# Altium integrated library FIT_TCM.IntLib: 99 symbols (part 2 of 3)
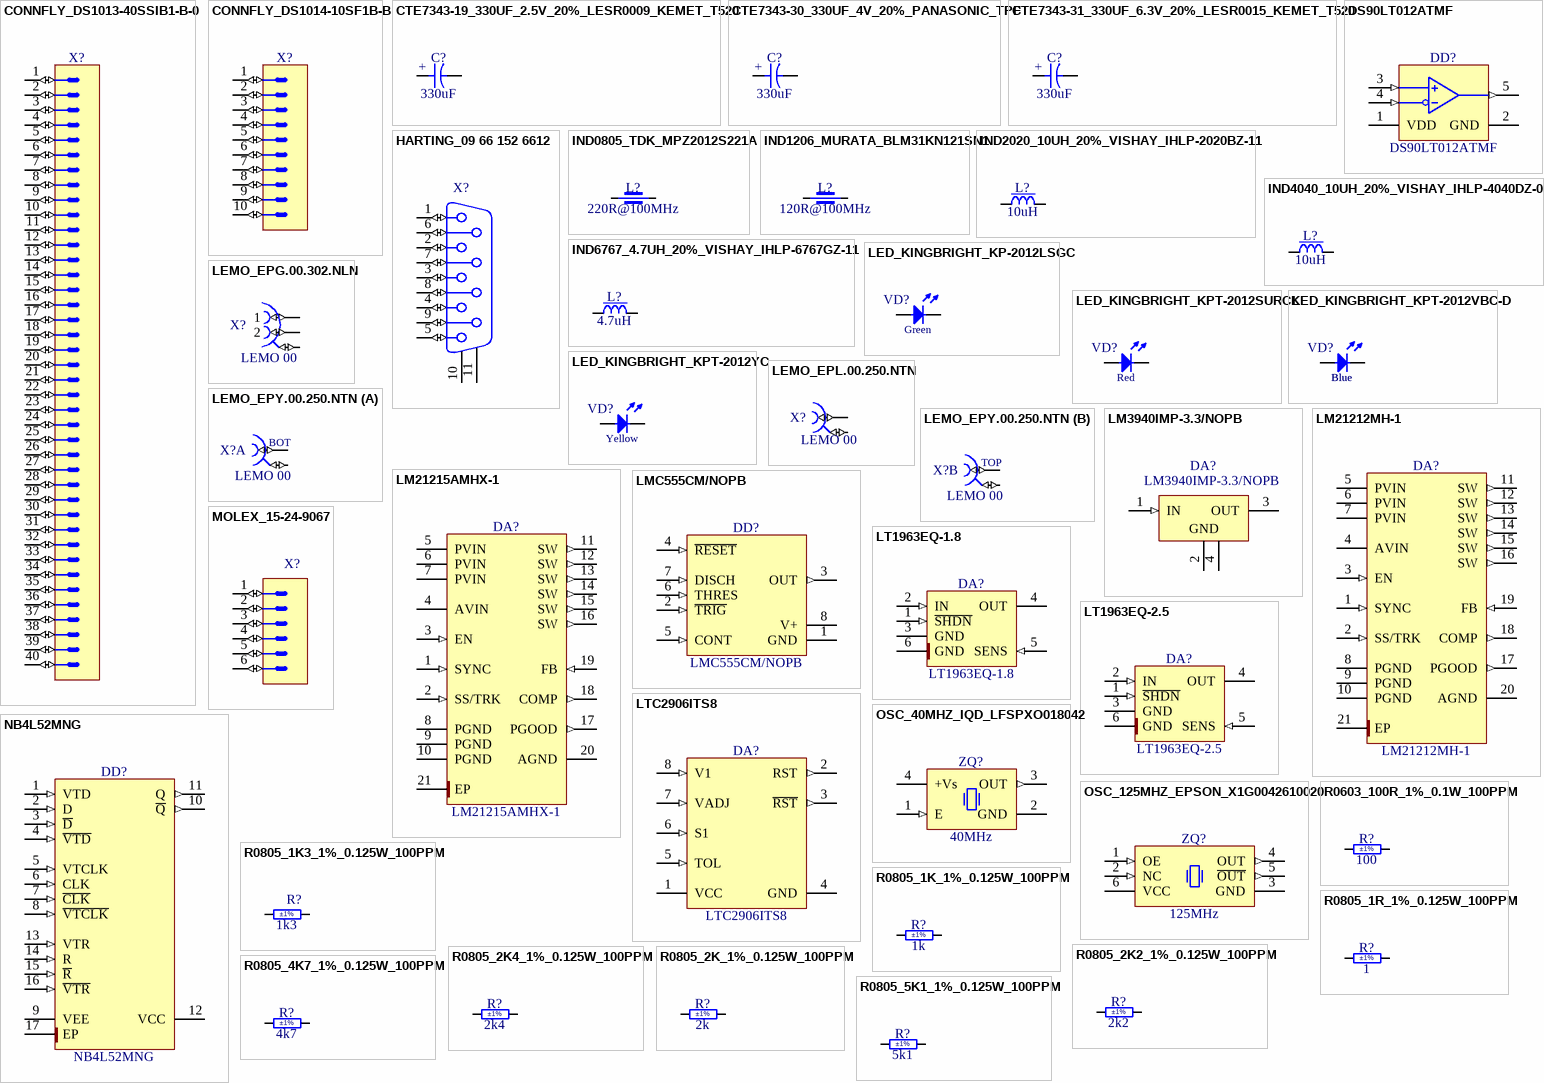
[diagram p6: symbols CONNFLY_DS1013-40SSIB1-B-0 to R0805_5K1_1%_0.125W_100PPM]

## OSC_125MHZ_EPSON_X1G0042610020
designator ZQ?, comment 125MHz
Low-Jitter Saw Oscillator (EG-2102 Serie); Part Number: OSC_125MHZ_EPSON_X1G0042610020; Part Description: 3.3V, ±30ppm, -40°C to +85°C, LVDS XO Oscillator, SG5032VAN Series; Manufacturer: EPSON; Manufacturer Part Number: X1G0042610020; PressFit: No; Bonding: No; Component Kind: Standard; Component Type: Standard; Footprint: OSC_EPSON_SG5032VAN; PackageDescription: SMD Oscillator, Side Concave; 1.27mm Pitch; 6 Pins, 3.2mm L X 5.0mm W X 1.20mm H; Value: 125MHz; Pin Count: 6; Mounted: Yes; Socket: No; SMD: Yes; Sense: No; ComponentHeight: 1.2mm; HelpURL: \\cern.ch\dfs\Applications\Altium\Datasheets\OSC_EPSON_X1G004261.pdf; Author: CERN DEM HF; CreateDate: 11.06.2024; LatestRevisionDate: 11.06.2024
footprint OSC_EPSON_SG5032VAN
pins: 1 OE (in), 2 NC (in), 3 GND (power), 4 OUT (out), 5 ~{OUT} (out), 6 VCC (power)

## R0603_100R_1%_0.1W_100PPM
designator R?, comment 100  Tolerance: ±1%
Resistor - 1%; Part Number: R0603_100R_1%_0.1W_100PPM; Part Description: General Purpose Thick Film Chip Resistor; Manufacturer: GENERIC; Manufacturer1 Part Number: NRC06F4700TRF; Power: 0.1W; TC: ±100ppm/°C; PressFit: No; Component Kind: Standard; Component Type: Standard; Footprint: RESC1608X55N; Pin Count: 2; Value: 100; Status: Preferred; Manufacturer Part Number: R0603_100R_1%_0.1W_100PPM; Case: 0603; Mounted: Yes; Sense: No; Socket: No; SMD: Yes; Manufacturer1 Example: NIC COMPONENT; Manufacturer1 ComponentHeight: 0.55mm; HelpURL: \\cern.ch\dfs\Applications\Altium\Datasheets\R0603_NIC_NRC.pdf; Author: CERN DEM JLC; CreateDate: 03.12.2007; LatestRevisionDate: 13.03.2008
footprint RESC1608X55N
pins: 1, 2

## R0805_1K3_1%_0.125W_100PPM
designator R?, comment 1k3  Tolerance: ±1%
Resistor - 1%; Part Number: R0805_1K3_1%_0.125W_100PPM; Part Description: General Purpose Thick Film Chip Resistor; Manufacturer: GENERIC; Manufacturer1 Part Number: NRC10F1301TRF; Power: 0.125W; TC: ±100ppm/°C; PressFit: No; Component Kind: Standard; Component Type: Standard; Footprint: RESC2012X60N; Pin Count: 2; Value: 1k3; Status: Preferred; Manufacturer Part Number: R0805_1K3_1%_0.125W_100PPM; Case: 0805; Mounted: Yes; Sense: No; Socket: No; SMD: Yes; Manufacturer1 Example: NIC COMPONENT; Manufacturer1 ComponentHeight: 0.6mm; HelpURL: \\cern.ch\dfs\Applications\Altium\Datasheets\R0805_NIC_NRC.pdf; Author: CERN DEM JLC; CreateDate: 03.12.2007; LatestRevisionDate: 13.03.2008
footprint RESC2012X60N
pins: 1, 2

## R0805_1K_1%_0.125W_100PPM
designator R?, comment 1k  Tolerance: ±1%
Resistor - 1%; Part Number: R0805_1K_1%_0.125W_100PPM; Part Description: General Purpose Thick Film Chip Resistor; Manufacturer: GENERIC; Manufacturer1 Part Number: NRC10F1001TRF; Power: 0.125W; TC: ±100ppm/°C; PressFit: No; Component Kind: Standard; Component Type: Standard; Footprint: RESC2012X60N; Pin Count: 2; Value: 1k; Status: Preferred; Manufacturer Part Number: R0805_1K_1%_0.125W_100PPM; Case: 0805; Mounted: Yes; Sense: No; Socket: No; SMD: Yes; Manufacturer1 Example: NIC COMPONENT; Manufacturer1 ComponentHeight: 0.6mm; HelpURL: \\cern.ch\dfs\Applications\Altium\Datasheets\R0805_NIC_NRC.pdf; Author: CERN DEM JLC; CreateDate: 03.12.2007; LatestRevisionDate: 13.03.2008
footprint RESC2012X60N
pins: 1, 2

## R0805_1R_1%_0.125W_100PPM
designator R?, comment 1  Tolerance: ±1%
Resistor - 1%; Part Number: R0805_1R_1%_0.125W_100PPM; Part Description: Thick Film Chip Resistor; Manufacturer: GENERIC; Manufacturer1 Part Number: CRCW08051R00FKEA; Power: 0.125W; TC: ±100ppm/°C; PressFit: No; Component Kind: Standard; Component Type: Standard; Footprint: RESC2012X60N; Pin Count: 2; Value: 1; Status: None; Manufacturer Part Number: R0805_1R_1%_0.125W_100PPM; Case: 0805; Mounted: Yes; Sense: No; Socket: No; SMD: Yes; Manufacturer1 Example: VISHAY; Manufacturer1 ComponentHeight: 0.6mm; HelpURL: \\cern.ch\dfs\Applications\Altium\Datasheets\R0805_VISHAY_CRCW e3.pdf; Author: CERN DEM HF; CreateDate: 07.06.2024; LatestRevisionDate: 07.06.2024
footprint RESC2012X60N
pins: 1, 2

## R0805_2K2_1%_0.125W_100PPM
designator R?, comment 2k2  Tolerance: ±1%
Resistor - 1%; Part Number: R0805_2K2_1%_0.125W_100PPM; Part Description: General Purpose Thick Film Chip Resistor; Manufacturer: GENERIC; Manufacturer1 Part Number: NRC10F2201TRF; Power: 0.125W; TC: ±100ppm/°C; PressFit: No; Component Kind: Standard; Component Type: Standard; Footprint: RESC2012X60N; Pin Count: 2; Value: 2k2; Status: Preferred; Manufacturer Part Number: R0805_2K2_1%_0.125W_100PPM; Case: 0805; Mounted: Yes; Sense: No; Socket: No; SMD: Yes; Manufacturer1 Example: NIC COMPONENT; Manufacturer1 ComponentHeight: 0.6mm; HelpURL: \\cern.ch\dfs\Applications\Altium\Datasheets\R0805_NIC_NRC.pdf; Author: CERN DEM JLC; CreateDate: 03.12.2007; LatestRevisionDate: 13.03.2008
footprint RESC2012X60N
pins: 1, 2

## R0805_2K4_1%_0.125W_100PPM
designator R?, comment 2k4  Tolerance: ±1%
Resistor - 1%; Part Number: R0805_2K4_1%_0.125W_100PPM; Part Description: General Purpose Thick Film Chip Resistor; Manufacturer: GENERIC; Manufacturer1 Part Number: NRC10F2401TRF; Power: 0.125W; TC: ±100ppm/°C; PressFit: No; Component Kind: Standard; Component Type: Standard; Footprint: RESC2012X60N; Pin Count: 2; Value: 2k4; Status: Preferred; Manufacturer Part Number: R0805_2K4_1%_0.125W_100PPM; Case: 0805; Mounted: Yes; Sense: No; Socket: No; SMD: Yes; Manufacturer1 Example: NIC COMPONENT; Manufacturer1 ComponentHeight: 0.6mm; HelpURL: \\cern.ch\dfs\Applications\Altium\Datasheets\R0805_NIC_NRC.pdf; Author: CERN DEM JLC; CreateDate: 03.12.2007; LatestRevisionDate: 13.03.2008
footprint RESC2012X60N
pins: 1, 2

## R0805_2K_1%_0.125W_100PPM
designator R?, comment 2k  Tolerance: ±1%
Resistor - 1%; Part Number: R0805_2K_1%_0.125W_100PPM; Part Description: General Purpose Thick Film Chip Resistor; Manufacturer: GENERIC; Manufacturer1 Part Number: NRC10F2001TRF; Power: 0.125W; TC: ±100ppm/°C; PressFit: No; Component Kind: Standard; Component Type: Standard; Footprint: RESC2012X60N; Pin Count: 2; Value: 2k; Status: Preferred; Manufacturer Part Number: R0805_2K_1%_0.125W_100PPM; Case: 0805; Mounted: Yes; Sense: No; Socket: No; SMD: Yes; Manufacturer1 Example: NIC COMPONENT; Manufacturer1 ComponentHeight: 0.6mm; HelpURL: \\cern.ch\dfs\Applications\Altium\Datasheets\R0805_NIC_NRC.pdf; Author: CERN DEM JLC; CreateDate: 03.12.2007; LatestRevisionDate: 13.03.2008
footprint RESC2012X60N
pins: 1, 2

## R0805_4K7_1%_0.125W_100PPM
designator R?, comment 4k7  Tolerance: ±1%
Resistor - 1%; Part Number: R0805_4K7_1%_0.125W_100PPM; Part Description: General Purpose Thick Film Chip Resistor; Manufacturer: GENERIC; Manufacturer1 Part Number: NRC10F4701TRF; Power: 0.125W; TC: ±100ppm/°C; PressFit: No; Component Kind: Standard; Component Type: Standard; Footprint: RESC2012X60N; Pin Count: 2; Value: 4k7; Status: Preferred; Manufacturer Part Number: R0805_4K7_1%_0.125W_100PPM; Case: 0805; Mounted: Yes; Sense: No; Socket: No; SMD: Yes; Manufacturer1 Example: NIC COMPONENT; Manufacturer1 ComponentHeight: 0.6mm; HelpURL: \\cern.ch\dfs\Applications\Altium\Datasheets\R0805_NIC_NRC.pdf; Author: CERN DEM JLC; CreateDate: 03.12.2007; LatestRevisionDate: 13.03.2008
footprint RESC2012X60N
pins: 1, 2

## R0805_5K1_1%_0.125W_100PPM
designator R?, comment 5k1  Tolerance: ±1%
Resistor - 1%; Part Number: R0805_5K1_1%_0.125W_100PPM; Part Description: General Purpose Thick Film Chip Resistor; Manufacturer: GENERIC; Manufacturer1 Part Number: NRC10F5101TRF; Power: 0.125W; TC: ±100ppm/°C; PressFit: No; Component Kind: Standard; Component Type: Standard; Footprint: RESC2012X60N; Pin Count: 2; Value: 5k1; Status: Preferred; Manufacturer Part Number: R0805_5K1_1%_0.125W_100PPM; Case: 0805; Mounted: Yes; Sense: No; Socket: No; SMD: Yes; Manufacturer1 Example: NIC COMPONENT; Manufacturer1 ComponentHeight: 0.6mm; HelpURL: \\cern.ch\dfs\Applications\Altium\Datasheets\R0805_NIC_NRC.pdf; Author: CERN DEM JLC; CreateDate: 03.12.2007; LatestRevisionDate: 13.03.2008
footprint RESC2012X60N
pins: 1, 2

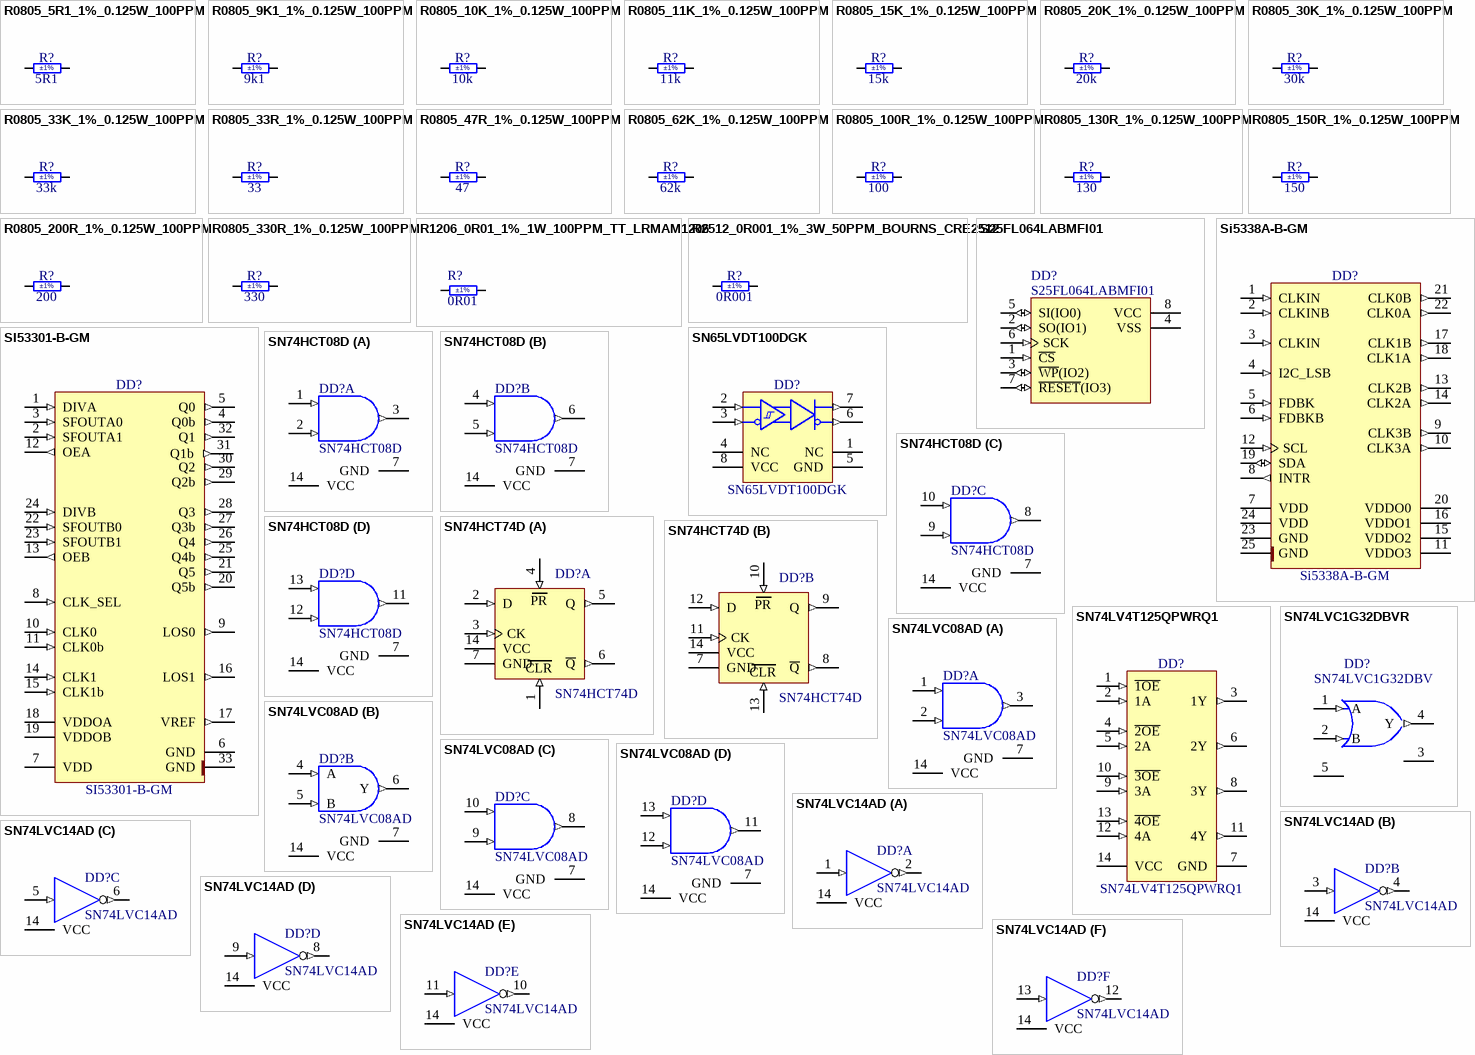
[diagram p2: symbols R0805_5R1_1%_0.125W_100PPM to SN74LVC14AD]

## R0805_5R1_1%_0.125W_100PPM
designator R?, comment 5R1  Tolerance: ±1%
Resistor - 1%; Part Number: R0805_5R1_1%_0.125W_100PPM; Part Description: Thick Film Chip Resistor; Manufacturer: GENERIC; Manufacturer1 Part Number: CRCW08055R10FKEAHP; Power: 0.125W; TC: ±100ppm/°C; PressFit: No; Component Kind: Standard; Component Type: Standard; Footprint: RESC2012X60N; Pin Count: 2; Value: 5R1; Status: None; Manufacturer Part Number: R0805_5R1_1%_0.125W_100PPM; Case: 0805; Mounted: Yes; Sense: No; Socket: No; SMD: Yes; Manufacturer1 Example: VISHAY; Manufacturer1 ComponentHeight: 0.6mm; HelpURL: \\cern.ch\dfs\Applications\Altium\Datasheets\R0805_VISHAY_CRCW-HP e3.pdf; Author: CERN DEM HF; CreateDate: 07.06.2024; LatestRevisionDate: 07.06.2024
footprint RESC2012X60N
pins: 1, 2

## R0805_9K1_1%_0.125W_100PPM
designator R?, comment 9k1  Tolerance: ±1%
Resistor - 1%; Part Number: R0805_9K1_1%_0.125W_100PPM; Part Description: General Purpose Thick Film Chip Resistor; Manufacturer: GENERIC; Manufacturer1 Part Number: NRC10F9101TRF; Power: 0.125W; TC: ±100ppm/°C; PressFit: No; Component Kind: Standard; Component Type: Standard; Footprint: RESC2012X60N; Pin Count: 2; Value: 9k1; Status: Preferred; Manufacturer Part Number: R0805_9K1_1%_0.125W_100PPM; Case: 0805; Mounted: Yes; Sense: No; Socket: No; SMD: Yes; Manufacturer1 Example: NIC COMPONENT; Manufacturer1 ComponentHeight: 0.6mm; HelpURL: \\cern.ch\dfs\Applications\Altium\Datasheets\R0805_NIC_NRC.pdf; Author: CERN DEM JLC; CreateDate: 03.12.2007; LatestRevisionDate: 13.03.2008
footprint RESC2012X60N
pins: 1, 2

## R0805_10K_1%_0.125W_100PPM
designator R?, comment 10k  Tolerance: ±1%
Resistor - 1%; Part Number: R0805_10K_1%_0.125W_100PPM; Part Description: General Purpose Thick Film Chip Resistor; Manufacturer: GENERIC; Manufacturer1 Part Number: NRC10F1002TRF; Power: 0.125W; TC: ±100ppm/°C; PressFit: No; Component Kind: Standard; Component Type: Standard; Footprint: RESC2012X60N; Pin Count: 2; Value: 10k; Status: Preferred; Manufacturer Part Number: R0805_10K_1%_0.125W_100PPM; Case: 0805; Mounted: Yes; Sense: No; Socket: No; SMD: Yes; Manufacturer1 Example: NIC COMPONENT; Manufacturer1 ComponentHeight: 0.6mm; HelpURL: \\cern.ch\dfs\Applications\Altium\Datasheets\R0805_NIC_NRC.pdf; Author: CERN DEM JLC; CreateDate: 03.12.2007; LatestRevisionDate: 13.03.2008
footprint RESC2012X60N
pins: 1, 2

## R0805_11K_1%_0.125W_100PPM
designator R?, comment 11k  Tolerance: ±1%
Resistor - 1%; Part Number: R0805_11K_1%_0.125W_100PPM; Part Description: General Purpose Thick Film Chip Resistor; Manufacturer: GENERIC; Manufacturer1 Part Number: NRC10F1102TRF; Power: 0.125W; TC: ±100ppm/°C; PressFit: No; Component Kind: Standard; Component Type: Standard; Footprint: RESC2012X60N; Pin Count: 2; Value: 11k; Status: Preferred; Manufacturer Part Number: R0805_11K_1%_0.125W_100PPM; Case: 0805; Mounted: Yes; Sense: No; Socket: No; SMD: Yes; Manufacturer1 Example: NIC COMPONENT; Manufacturer1 ComponentHeight: 0.6mm; HelpURL: \\cern.ch\dfs\Applications\Altium\Datasheets\R0805_NIC_NRC.pdf; Author: CERN DEM JLC; CreateDate: 03.12.2007; LatestRevisionDate: 13.03.2008
footprint RESC2012X60N
pins: 1, 2

## R0805_15K_1%_0.125W_100PPM
designator R?, comment 15k  Tolerance: ±1%
Resistor - 1%; Part Number: R0805_15K_1%_0.125W_100PPM; Part Description: General Purpose Thick Film Chip Resistor; Manufacturer: GENERIC; Manufacturer1 Part Number: NRC10F1502TRF; Power: 0.125W; TC: ±100ppm/°C; PressFit: No; Component Kind: Standard; Component Type: Standard; Footprint: RESC2012X60N; Pin Count: 2; Value: 15k; Status: Preferred; Manufacturer Part Number: R0805_15K_1%_0.125W_100PPM; Case: 0805; Mounted: Yes; Sense: No; Socket: No; SMD: Yes; Manufacturer1 Example: NIC COMPONENT; Manufacturer1 ComponentHeight: 0.6mm; HelpURL: \\cern.ch\dfs\Applications\Altium\Datasheets\R0805_NIC_NRC.pdf; Author: CERN DEM JLC; CreateDate: 13.05.2013; LatestRevisionDate: 13.05.2013
footprint RESC2012X60N
pins: 1, 2

## R0805_20K_1%_0.125W_100PPM
designator R?, comment 20k  Tolerance: ±1%
Resistor - 1%; Part Number: R0805_20K_1%_0.125W_100PPM; Part Description: General Purpose Thick Film Chip Resistor; Manufacturer: GENERIC; Manufacturer1 Part Number: NRC10F2002TRF; Power: 0.125W; TC: ±100ppm/°C; PressFit: No; Component Kind: Standard; Component Type: Standard; Footprint: RESC2012X60N; Pin Count: 2; Value: 20k; Status: Preferred; Manufacturer Part Number: R0805_20K_1%_0.125W_100PPM; Case: 0805; Mounted: Yes; Sense: No; Socket: No; SMD: Yes; Manufacturer1 Example: NIC COMPONENT; Manufacturer1 ComponentHeight: 0.6mm; HelpURL: \\cern.ch\dfs\Applications\Altium\Datasheets\R0805_NIC_NRC.pdf; Author: CERN DEM JLC; CreateDate: 03.12.2007; LatestRevisionDate: 13.03.2008
footprint RESC2012X60N
pins: 1, 2

## R0805_30K_1%_0.125W_100PPM
designator R?, comment 30k  Tolerance: ±1%
Resistor - 1%; Part Number: R0805_30K_1%_0.125W_100PPM; Part Description: General Purpose Thick Film Chip Resistor; Manufacturer: GENERIC; Manufacturer1 Part Number: NRC10F3002TRF; Power: 0.125W; TC: ±100ppm/°C; PressFit: No; Component Kind: Standard; Component Type: Standard; Footprint: RESC2012X60N; Pin Count: 2; Value: 30k; Status: Preferred; Manufacturer Part Number: R0805_30K_1%_0.125W_100PPM; Case: 0805; Mounted: Yes; Sense: No; Socket: No; SMD: Yes; Manufacturer1 Example: NIC COMPONENT; Manufacturer1 ComponentHeight: 0.6mm; HelpURL: \\cern.ch\dfs\Applications\Altium\Datasheets\R0805_NIC_NRC.pdf; Author: CERN DEM JLC; CreateDate: 03.12.2007; LatestRevisionDate: 13.03.2008
footprint RESC2012X60N
pins: 1, 2

## R0805_33K_1%_0.125W_100PPM
designator R?, comment 33k  Tolerance: ±1%
Resistor - 1%; Part Number: R0805_33K_1%_0.125W_100PPM; Part Description: General Purpose Thick Film Chip Resistor; Manufacturer: GENERIC; Manufacturer1 Part Number: NRC10F3302TRF; Power: 0.125W; TC: ±100ppm/°C; PressFit: No; Component Kind: Standard; Component Type: Standard; Footprint: RESC2012X60N; Pin Count: 2; Value: 33k; Status: Preferred; Manufacturer Part Number: R0805_33K_1%_0.125W_100PPM; Case: 0805; Mounted: Yes; Sense: No; Socket: No; SMD: Yes; Manufacturer1 Example: NIC COMPONENT; Manufacturer1 ComponentHeight: 0.6mm; HelpURL: \\cern.ch\dfs\Applications\Altium\Datasheets\R0805_NIC_NRC.pdf; Author: CERN DEM JLC; CreateDate: 03.12.2007; LatestRevisionDate: 13.03.2008
footprint RESC2012X60N
pins: 1, 2

## R0805_33R_1%_0.125W_100PPM
designator R?, comment 33  Tolerance: ±1%
Resistor - 1%; Part Number: R0805_33R_1%_0.125W_100PPM; Part Description: General Purpose Thick Film Chip Resistor; Manufacturer: GENERIC; Manufacturer1 Part Number: NRC10F33R0TRF; Power: 0.125W; TC: ±100ppm/°C; PressFit: No; Component Kind: Standard; Component Type: Standard; Footprint: RESC2012X60N; Pin Count: 2; Value: 33; Status: Preferred; Manufacturer Part Number: R0805_33R_1%_0.125W_100PPM; Case: 0805; Mounted: Yes; Sense: No; Socket: No; SMD: Yes; Manufacturer1 Example: NIC COMPONENT; Manufacturer1 ComponentHeight: 0.6mm; HelpURL: \\cern.ch\dfs\Applications\Altium\Datasheets\R0805_NIC_NRC.pdf; Author: CERN DEM JLC; CreateDate: 03.12.2007; LatestRevisionDate: 13.03.2008
footprint RESC2012X60N
pins: 1, 2

## R0805_47R_1%_0.125W_100PPM
designator R?, comment 47  Tolerance: ±1%
Resistor - 1%; Part Number: R0805_47R_1%_0.125W_100PPM; Part Description: General Purpose Thick Film Chip Resistor; Manufacturer: GENERIC; Manufacturer1 Part Number: NRC10F47R0TRF; Power: 0.125W; TC: ±100ppm/°C; PressFit: No; Component Kind: Standard; Component Type: Standard; Footprint: RESC2012X60N; Pin Count: 2; Value: 47; Status: Preferred; Manufacturer Part Number: R0805_47R_1%_0.125W_100PPM; Case: 0805; Mounted: Yes; Sense: No; Socket: No; SMD: Yes; Manufacturer1 Example: NIC COMPONENT; Manufacturer1 ComponentHeight: 0.6mm; HelpURL: \\cern.ch\dfs\Applications\Altium\Datasheets\R0805_NIC_NRC.pdf; Author: CERN DEM JLC; CreateDate: 03.12.2007; LatestRevisionDate: 13.03.2008
footprint RESC2012X60N
pins: 1, 2

## R0805_62K_1%_0.125W_100PPM
designator R?, comment 62k  Tolerance: ±1%
Resistor - 1%; Part Number: R0805_62K_1%_0.125W_100PPM; Part Description: General Purpose Thick Film Chip Resistor; Manufacturer: GENERIC; Manufacturer1 Part Number: NRC10F6202TRF; Power: 0.125W; TC: ±100ppm/°C; PressFit: No; Component Kind: Standard; Component Type: Standard; Footprint: RESC2012X60N; Pin Count: 2; Value: 62k; Status: Preferred; Manufacturer Part Number: R0805_62K_1%_0.125W_100PPM; Case: 0805; Mounted: Yes; Sense: No; Socket: No; SMD: Yes; Manufacturer1 Example: NIC COMPONENT; Manufacturer1 ComponentHeight: 0.6mm; HelpURL: \\cern.ch\dfs\Applications\Altium\Datasheets\R0805_NIC_NRC.pdf; Author: CERN DEM JLC; CreateDate: 03.12.2007; LatestRevisionDate: 13.03.2008
footprint RESC2012X60N
pins: 1, 2

## R0805_100R_1%_0.125W_100PPM
designator R?, comment 100  Tolerance: ±1%
Resistor - 1%; Part Number: R0805_100R_1%_0.125W_100PPM; Part Description: General Purpose Thick Film Chip Resistor; Manufacturer: GENERIC; Manufacturer1 Part Number: NRC10F4700TRF; Power: 0.125W; TC: ±100ppm/°C; PressFit: No; Component Kind: Standard; Component Type: Standard; Footprint: RESC2012X60N; Pin Count: 2; Value: 100; Status: Preferred; Manufacturer Part Number: R0805_100R_1%_0.125W_100PPM; Case: 0805; Mounted: Yes; Sense: No; Socket: No; SMD: Yes; Manufacturer1 Example: NIC COMPONENT; Manufacturer1 ComponentHeight: 0.6mm; HelpURL: \\cern.ch\dfs\Applications\Altium\Datasheets\R0805_NIC_NRC.pdf; Author: CERN DEM JLC; CreateDate: 03.12.2007; LatestRevisionDate: 13.03.2008
footprint RESC2012X60N
pins: 1, 2

## R0805_130R_1%_0.125W_100PPM
designator R?, comment 130  Tolerance: ±1%
Resistor - 1%; Part Number: R0805_130R_1%_0.125W_100PPM; Part Description: General Purpose Thick Film Chip Resistor; Manufacturer: GENERIC; Manufacturer1 Part Number: NRC10F1300TRF; Power: 0.125W; TC: ±100ppm/°C; PressFit: No; Component Kind: Standard; Component Type: Standard; Footprint: RESC2012X60N; Pin Count: 2; Value: 130; Status: Preferred; Manufacturer Part Number: R0805_130R_1%_0.125W_100PPM; Case: 0805; Mounted: Yes; Sense: No; Socket: No; SMD: Yes; Manufacturer1 Example: NIC COMPONENT; Manufacturer1 ComponentHeight: 0.6mm; HelpURL: \\cern.ch\dfs\Applications\Altium\Datasheets\R0805_NIC_NRC.pdf; Author: CERN DEM JLC; CreateDate: 03.12.2007; LatestRevisionDate: 13.03.2008
footprint RESC2012X60N
pins: 1, 2

## R0805_150R_1%_0.125W_100PPM
designator R?, comment 150  Tolerance: ±1%
Resistor - 1%; Part Number: R0805_150R_1%_0.125W_100PPM; Part Description: General Purpose Thick Film Chip Resistor; Manufacturer: GENERIC; Manufacturer1 Part Number: NRC10F1500TRF; Power: 0.125W; TC: ±100ppm/°C; PressFit: No; Component Kind: Standard; Component Type: Standard; Footprint: RESC2012X60N; Pin Count: 2; Value: 150; Status: Preferred; Manufacturer Part Number: R0805_150R_1%_0.125W_100PPM; Case: 0805; Mounted: Yes; Sense: No; Socket: No; SMD: Yes; Manufacturer1 Example: NIC COMPONENT; Manufacturer1 ComponentHeight: 0.6mm; HelpURL: \\cern.ch\dfs\Applications\Altium\Datasheets\R0805_NIC_NRC.pdf; Author: CERN DEM JLC; CreateDate: 03.12.2007; LatestRevisionDate: 13.03.2008
footprint RESC2012X60N
pins: 1, 2

## R0805_200R_1%_0.125W_100PPM
designator R?, comment 200  Tolerance: ±1%
Resistor - 1%; Part Number: R0805_200R_1%_0.125W_100PPM; Part Description: General Purpose Thick Film Chip Resistor; Manufacturer: GENERIC; Manufacturer1 Part Number: NRC10F2000TRF; Power: 0.125W; TC: ±100ppm/°C; PressFit: No; Component Kind: Standard; Component Type: Standard; Footprint: RESC2012X60N; Pin Count: 2; Value: 200; Status: Preferred; Manufacturer Part Number: R0805_200R_1%_0.125W_100PPM; Case: 0805; Mounted: Yes; Sense: No; Socket: No; SMD: Yes; Manufacturer1 Example: NIC COMPONENT; Manufacturer1 ComponentHeight: 0.6mm; HelpURL: \\cern.ch\dfs\Applications\Altium\Datasheets\R0805_NIC_NRC.pdf; Author: CERN DEM JLC; CreateDate: 03.12.2007; LatestRevisionDate: 13.03.2008
footprint RESC2012X60N
pins: 1, 2

## R0805_330R_1%_0.125W_100PPM
designator R?, comment 330  Tolerance: ±1%
Resistor - 1%; Part Number: R0805_330R_1%_0.125W_100PPM; Part Description: General Purpose Thick Film Chip Resistor; Manufacturer: GENERIC; Manufacturer1 Part Number: NRC10F3300TRF; Power: 0.125W; TC: ±100ppm/°C; PressFit: No; Component Kind: Standard; Component Type: Standard; Footprint: RESC2012X60N; Pin Count: 2; Value: 330; Status: Preferred; Manufacturer Part Number: R0805_330R_1%_0.125W_100PPM; Case: 0805; Mounted: Yes; Sense: No; Socket: No; SMD: Yes; Manufacturer1 Example: NIC COMPONENT; Manufacturer1 ComponentHeight: 0.6mm; HelpURL: \\cern.ch\dfs\Applications\Altium\Datasheets\R0805_NIC_NRC.pdf; Author: CERN DEM JLC; CreateDate: 03.12.2007; LatestRevisionDate: 13.03.2008
footprint RESC2012X60N
pins: 1, 2

## R1206_0R01_1%_1W_100PPM_TT_LRMAM1206
designator R?, comment 0R01  Tolerance: ±1%
Resistor - 1%; Part Number: R1206_0R01_1%_1W_100PPM_TT_LRMAM1206; Part Description: Low Value Metal Alloy Resistor; Manufacturer: TT Electronics; Manufacturer Part Number: LRMAM1206-R01FT5; Power: 1W; TC: ±100ppm/°C; PressFit: No; Component Kind: Standard; Component Type: Standard; Footprint: RESC3216X80N; Pin Count: 2; Value: 0R01; Status: Not Recommended; Case: 1206; Mounted: Yes; Sense: No; Socket: No; SMD: Yes; ComponentHeight: 0.8mm; HelpURL: \\cern.ch\dfs\Applications\Altium\Datasheets\R1206_TT ELECTRONICS_LRMA.pdf; Author: CERN DEM BC; CreateDate: 29.07.2015; LatestRevisionDate: 29.07.2015
footprint RESC3216X80N
pins: 1, 2

## R2512_0R001_1%_3W_50PPM_BOURNS_CRE2512
designator R?, comment 0R001  Tolerance: ±1%
Resistor - 1%; Part Number: R2512_0R001_1%_3W_50PPM_BOURNS_CRE2512; Part Description: High Power Current Sense Chip Resistor; Manufacturer: BOURNS; Manufacturer Part Number: CRE2512-FZ-R001E-3; Power: 3W; TC: ±50ppm/°C; PressFit: No; Component Kind: Standard; Component Type: Standard; Footprint: RESC_BOURNS_CRE2512_0R001-0R004; Pin Count: 2; Value: 0R001; Status: None; Case: 2512; Mounted: Yes; Sense: No; Socket: No; SMD: Yes; ComponentHeight: 0.9mm; HelpURL: \\cern.ch\dfs\Applications\Altium\Datasheets\R2512_BOURNS_CRE2512.pdf; Author: CERN DEM BC; CreateDate: 13.10.2021; LatestRevisionDate: 13.10.2021
footprint RESC_BOURNS_CRE2512_0R001-0R004
pins: 1, 2

## S25FL064LABMFI01
designator DD?
64 Mb (8 MB), 3V, FL-L SPI Flash Memory; Manufacturer: INFINEON; PressFit: No; Bonding: No; Part Number: S25FL064LABMFI01; Component Kind: Standard; Component Type: Standard; Device: S25FL064LABMFI01; Footprint: SOIC127P800X216-8N; PackageDescription: SOIC, 1.27mm Pitch; 8 Pin, 5.28mm W X 5.28mm L X 2.16mm H body, IPC Medium Density; Part Description: 64 Mb (8 MB), 3V, FL-L SPI Flash Memory; Manufacturer Part Number: S25FL064LABMFI01; Pin Count: 8; Case: SOIC8; Mounted: Yes; Socket: No; SMD: Yes; Sense: No; ComponentHeight: 2.16mm; HelpURL: \\cern.ch\dfs\Applications\Altium\Datasheets\S25FL064L.pdf; Author: CERN DEM HF; CreateDate: 06.06.2024; LatestRevisionDate: 06.06.2024
footprint SOIC127P800X216-8N
pins: 1 ~{CS} (in), 2 SO(IO1) (io), 3 ~{WP}(IO2) (io), 4 VSS (power), 5 SI(IO0) (io), 6 SCK (in), 7 ~{RESET}(IO3) (io), 8 VCC (power)
1 alternate drawing of the same symbol

## Si5338A-B-GM
designator DD?
I2C-Programmable Any-Frequency, Any-Output Quad Clock Generator; Part Description: 0.16 MHz to 710 MHz I2C_LSB, I2C-Programmable Quad Clock Generator; Manufacturer: SILICON LABS; PressFit: No; Bonding: No; Part Number: Si5338A-B-GM; Component Kind: Standard; Component Type: Standard; Device: Si5338A-B-GM; Footprint: QFN50P400X400X90-25N-S265; PackageDescription: QFN, 0.50mm Pitch, Square; 24 Pin, 4.00mm L X 4.00mm W X 0.90mm H body (w/Thermal Tab 2.65 X 2.65mm), IPC Medium Density; Manufacturer Part Number: Si5338A-B-GM; Pin Count: 25; Case: QFN24; Mounted: Yes; Socket: No; SMD: Yes; Sense: No; ComponentHeight: 0.9mm; HelpURL: \\cern.ch\dfs\Applications\Altium\Datasheets\Si5338A-B-GM.pdf; Author: CERN DEM JMW; CreateDate: 07.02.2020; LatestRevisionDate: 07.02.2020
footprint QFN50P400X400X90-25N-S265
pins: 1 CLKIN (in), 2 CLKINB (in), 3 CLKIN (in), 4 I2C_LSB (in), 5 FDBK (in), 6 FDBKB (in), 7 VDD (power), 8 INTR (out), 9 CLK3B (out), 10 CLK3A (out), 11 VDDO3 (power), 12 SCL (in), 13 CLK2B (out), 14 CLK2A (out), 15 VDDO2 (power), 16 VDDO1 (power), 17 CLK1B (out), 18 CLK1A (out), 19 SDA (io), 20 VDDO0 (power), 21 CLK0B (out), 22 CLK0A (out), 23 GND (power), 24 VDD (power), 25 GND (power)

## SI53301-B-GM
designator DD?
I2C-Programmable Any-Frequency, Any-Output Quad Clock Generator; Part Description: Ultra-Low Additive Jitter Fanout Clock Buffers with up to 10 Universal Outputs from Any-Format Input and Wide Frequency Range from 1 MHz to 725 MHz; Manufacturer: SKYWORKS; PressFit: No; Bonding: No; Part Number: SI53301-B-GM; Component Kind: Standard; Component Type: Standard; Device: SI53301-B-GM; Footprint: QFN50P500X500X100-33N-S230; PackageDescription: QFN, 0.50mm Pitch, Square; 32 Pin, 5.00mm L X 5.00mm W X 1mm H body (w/Thermal Tab 2.3 X 2.3mm), IPC Medium Density; Manufacturer Part Number: SI53301-B-GM; Pin Count: 33; Case: QFN32; Mounted: Yes; Socket: No; SMD: Yes; Sense: No; ComponentHeight: 1mm; HelpURL: \\cern.ch\dfs\Applications\Altium\Datasheets\SI53301.pdf; Author: CERN DEM HF; CreateDate: 09.05.2023; LatestRevisionDate: 09.05.2023
footprint QFN50P500X500X100-33N-S230
pins: 1 DIVA (in), 2 SFOUTA1 (in), 3 SFOUTA0 (in), 4 Q0b (out), 5 Q0 (out), 6 GND (power), 7 VDD (power), 8 CLK_SEL (in), 9 LOS0 (out), 10 CLK0 (in), 11 CLK0b (in), 12 OEA (out), 13 OEB (out), 14 CLK1 (in), 15 CLK1b (in), 16 LOS1 (out), 17 VREF (out), 18 VDDOA (power), 19 VDDOB (power), 20 Q5b (out), 21 Q5 (out), 22 SFOUTB0 (in), 23 SFOUTB1 (in), 24 DIVB (in), 25 Q4b (out), 26 Q4 (out), 27 Q3b (out), 28 Q3 (out), 29 Q2b (out), 30 Q2 (out), 31 Q1b (out), 32 Q1 (out), 33 GND (power)

## SN65LVDT100DGK
designator DD?
2Gbps LVDS/LVPECL/CML to LVDS Translator/Repeater; Manufacturer: TEXAS INSTRUMENTS; PressFit: No; Bonding: No; Part Number: SN65LVDT100DGK; Component Kind: Standard; Component Type: Standard; Device: SN65LVDT100DGK; Footprint: SOP65P490X110-8N; PackageDescription: SOP, 0.65mm Pitch; 8 Pin, 3.00mm W X 3.00mm L X 1.10mm H body, IPC Medium Density; Part Description: 2Gbps LVDS/LVPECL/CML to LVDS Translator/Repeater; Manufacturer Part Number: SN65LVDT100DGK; Pin Count: 8; Case: SSOP8; Mounted: Yes; Socket: No; SMD: Yes; Sense: No; ComponentHeight: 1.1mm; Author: CERN DEM HF; HelpURL: \\cern.ch\dfs\Applications\Altium\Datasheets\SN65LVDT100D.pdf; CreateDate: 21.06.2023; LatestRevisionDate: 21.06.2023
footprint SOP65P490X110-8N
pins: 1 NC, 2 A (in), 3 B (in), 4 NC, 5 GND (power), 6 Z (out), 7 Y (out), 8 VCC (power)

## SN74HCT08D
designator DD?
Quad 2-Input AND Gate; Part Description: Quadruple 2-Input Positive-AND Gate; Manufacturer: TEXAS INSTRUMENTS; PressFit: No; Bonding: No; Part Number: SN74HCT08D; Component Kind: Standard; Component Type: Standard; Device: SN74HCT08D; Footprint: SOIC127P600X175-14N; PackageDescription: SOIC, 1.27mm Pitch; 14 Pin, 4.00mm W X 8.75mm L X 1.75mm H body, IPC Medium Density; Manufacturer Part Number: SN74HCT08D; Pin Count: 14; Case: SOIC14; Mounted: Yes; Socket: No; SMD: Yes; Sense: No; ComponentHeight: 1.75mm; Author: CERN DEM HF; HelpURL: \\cern.ch\dfs\Applications\Altium\Datasheets\SN74HCT08.pdf; CreateDate: 10.06.2024; LatestRevisionDate: 10.06.2024
footprint SOIC127P600X175-14N
pins on every part: 7 GND (power), 14 VCC (power)
part A pins: 1 A (in), 2 B (in), 3 Y (out)
part B pins: 4 A (in), 5 B (in), 6 Y (out)
part C pins: 8 Y (out), 9 B (in), 10 A (in)
part D pins: 11 Y (out), 12 B (in), 13 A (in)

## SN74HCT74D
designator DD?
Dual D-Type Flip Flop with Preset and Clear; Part Description: Dual Positive-Edge-Triggered D-Type Flip-Flop with Clear and Preset; Manufacturer: TEXAS INSTRUMENTS; PressFit: No; Bonding: No; Part Number: SN74HCT74D; Component Kind: Standard; Component Type: Standard; Device: SN74HCT74D; Footprint: SOIC127P600X175-14N; PackageDescription: SOIC 14, Pitch 1.27mm - Body 4x8.75mm, IPC Medium Density; Manufacturer Part Number: SN74HCT74D; Pin Count: 14; Case: SOIC14; Mounted: Yes; Socket: No; SMD: Yes; Sense: No; ComponentHeight: 1.75mm; Author: CERN DEM JLC; HelpURL: \\cern.ch\dfs\Applications\Altium\Datasheets\SN74HCT74D.pdf; CreateDate: 11.12.2018; LatestRevisionDate: 11.12.2018
footprint SOIC127P600X175-14N
pins on every part: 7 GND (power), 14 VCC (power)
part A pins: 1 ~{CLR} (in), 2 D (in), 3 CK (in), 4 ~{PR} (in), 5 Q (out), 6 ~{Q} (out)
part B pins: 8 ~{Q} (out), 9 Q (out), 10 ~{PR} (in), 11 CK (in), 12 D (in), 13 ~{CLR} (in)
part A text: PR; CLR
part B text: PR; CLR

## SN74LV4T125QPWRQ1
designator DD?
Quadruple Buffer Translator With 3-State Outputs; Manufacturer: TEXAS INSTRUMENTS; PressFit: No; Bonding: No; Part Number: SN74LV4T125QPWRQ1; Component Kind: Standard; Component Type: Standard; Device: SN74LV4T125QPWRQ1; Footprint: SOP65P640X120-14N; PackageDescription: SOP, 0.65mm Pitch; 14 Pin, 4.40mm W X 5.00mm L X 1.20mm H body, IPC Medium Density; Part Description: Quadruple Buffer Translator With 3-State Outputs; Manufacturer Part Number: SN74LV4T125QPWRQ1; Pin Count: 14; Case: TSSOP14; Mounted: Yes; Socket: No; SMD: Yes; Sense: No; ComponentHeight: 1.2mm; Author: CERN DEM HF; HelpURL: \\cern.ch\dfs\Applications\Altium\Datasheets\SN74LV4T125-Q1.pdf; CreateDate: 12.06.2024; LatestRevisionDate: 12.06.2024
footprint SOP65P640X120-14N
pins: 1 ~{1OE} (in), 2 1A (in), 3 1Y (out), 4 ~{2OE} (in), 5 2A (in), 6 2Y (out), 7 GND (power), 8 3Y (out), 9 3A (in), 10 ~{3OE} (in), 11 4Y (out), 12 4A (in), 13 ~{4OE} (in), 14 VCC (power)

## SN74LVC1G32DBVR
designator DD?, comment SN74LVC1G32DBV
Single 2-Input Positive-OR Gate; Part Number: SN74LVC1G32DBVR; Manufacturer: TEXAS INSTRUMENTS; PressFit: No; Bonding: No; Component Kind: Standard; Component Type: Standard; Device: SN74LVC1G32DBV; Footprint: SOT95P280X145-5N; PackageDescription: SOT, 0.95mm Pitch; 5 Pin, 1.60mm W X 2.90mm L X 1.45mm H body, IPC Medium Density; Part Description: Single 2-Input Positive-OR Gate; Manufacturer Part Number: SN74LVC1G32DBV; Pin Count: 5; Case: SOT23-5; Mounted: Yes; Socket: No; SMD: Yes; Sense: No; ComponentHeight: 1.45mm; Author: CERN DEM JLC; HelpURL: \\cern.ch\dfs\Applications\Altium\Datasheets\SN74LVC1G32DBVR.pdf; CreateDate: 25.04.2012; LatestRevisionDate: 25.04.2012
footprint SOT95P280X145-5N
pins: 1 A (in), 2 B (in), 3 GND (power) hidden to GND, 4 Y (out), 5 VCC (power) hidden to VCC

## SN74LVC08AD
designator DD?
Quad 2-Input AND Gate; Part Description: Quadruple 2-Input Positive-AND Gate; Manufacturer: TEXAS INSTRUMENTS; PressFit: No; Bonding: No; Part Number: SN74LVC08AD; Component Kind: Standard; Component Type: Standard; Device: SN74LVC08AD; Footprint: SOIC127P600X175-14N; PackageDescription: SOIC 14, Pitch 1.27mm - Body 4x8.75mm, IPC Medium Density; Manufacturer Part Number: SN74LVC08AD; Pin Count: 14; Case: SOIC14; Mounted: Yes; Socket: No; SMD: Yes; Sense: No; ComponentHeight: 1.75mm; Author: CERN DEM JLC; HelpURL: \\cern.ch\dfs\Applications\Altium\Datasheets\SN74LVC08AD.pdf; CreateDate: 21.03.2012; LatestRevisionDate: 21.03.2012
footprint SOIC127P600X175-14N
pins on every part: 7 GND (power) hidden to GND, 14 VCC (power) hidden to VCC
part A pins: 1 A (in), 2 B (in), 3 Y (out)
part B pins: 4 A (in), 5 B (in), 6 Y (out)
part C pins: 8 Y (out), 9 B (in), 10 A (in)
part D pins: 11 Y (out), 12 B (in), 13 A (in)

## SN74LVC14AD
designator DD?
Hex Schmitt-Trigger Inverter; Manufacturer: TEXAS INSTRUMENTS; PressFit: No; Bonding: No; Part Number: SN74LVC14AD; Component Kind: Standard; Component Type: Standard; Device: SN74LVC14AD; Footprint: SOIC127P600X175-14N; PackageDescription: SOIC 14, Pitch 1.27mm - Body 4x8.75mm, IPC Medium Density; Part Description: Hex Schmitt-Trigger Inverter; Manufacturer Part Number: SN74LVC14AD; Pin Count: 14; Case: SOIC14; Mounted: Yes; Socket: No; SMD: Yes; Sense: No; ComponentHeight: 1.75mm; Author: CERN DEM JMW; HelpURL: \\cern.ch\dfs\Applications\Altium\Datasheets\SN74LVC14AD.pdf; CreateDate: 29.09.2008; LatestRevisionDate: 29.09.2008
footprint SOIC127P600X175-14N
pins on every part: 7 GND (power) hidden to GND, 14 VCC (power)
part A pins: 1 IN (in), 2 OUT (out)
part B pins: 3 IN (in), 4 OUT (out)
part C pins: 5 IN (in), 6 OUT (out)
part D pins: 8 OUT (out), 9 IN (in)
part E pins: 10 OUT (out), 11 IN (in)
part F pins: 12 OUT (out), 13 IN (in)

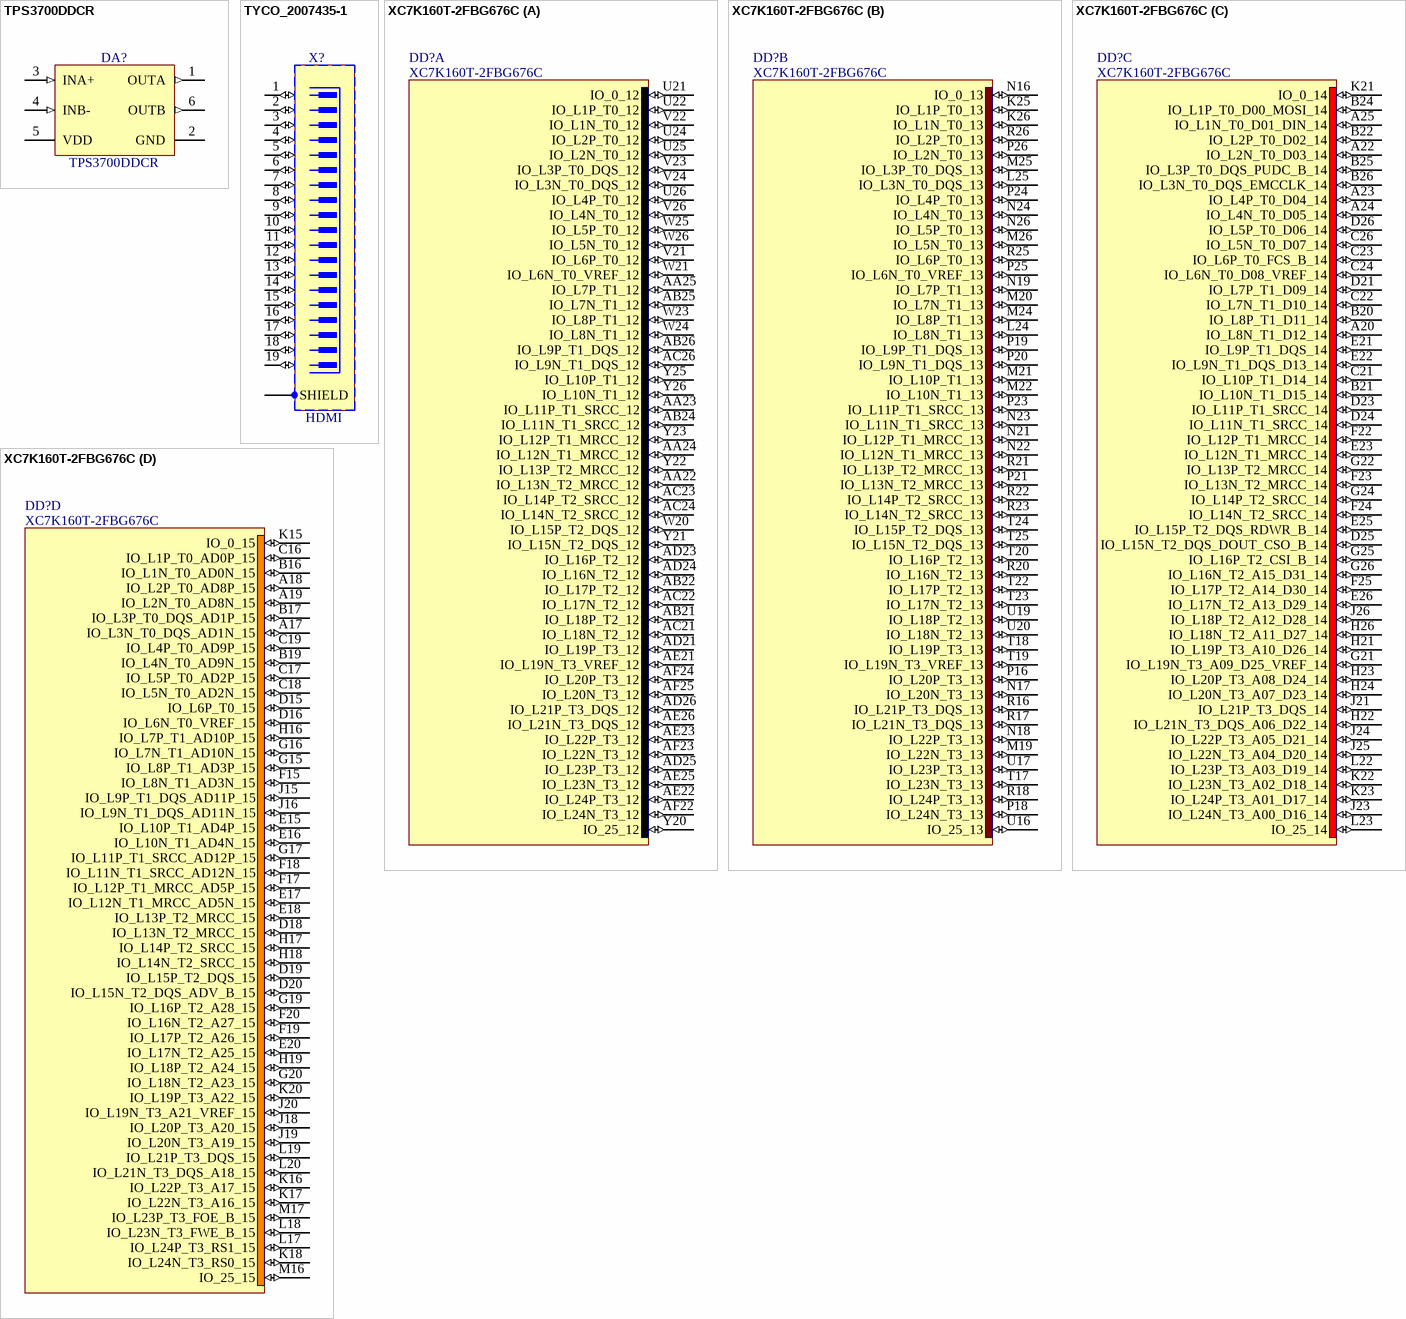
[diagram p3: symbols TPS3700DDCR to XC7K160T-2FBG676C]

## TPS3700DDCR
designator DA?
Window Comparator for Over- and Undervoltage Detection; Manufacturer: TEXAS INSTRUMENTS; PressFit: No; Bonding: No; Part Number: TPS3700DDCR; Component Kind: Standard; Component Type: Standard; Device: TPS3700DDCR; Footprint: SOT95P280X110-6N; PackageDescription: SOT, 0.95mm Pitch; 6 Pin, 1.60mm W X 2.90mm L X 1.10mm H body, IPC Medium Density; Part Description: Window Comparator for Over- and Undervoltage Detection; Manufacturer Part Number: TPS3700DDCR; Pin Count: 6; Case: SOT23-6; Mounted: Yes; Socket: No; SMD: Yes; Sense: No; ComponentHeight: 1.1mm; Author: CERN DEM JMW; HelpURL: \\cern.ch\dfs\Applications\Altium\Datasheets\TPS3700DDCR.pdf; CreateDate: 12.02.2014; LatestRevisionDate: 12.02.2014
footprint SOT95P280X110-6N
pins: 1 OUTA (out), 2 GND (power), 3 INA+ (in), 4 INB- (in), 5 VDD (power), 6 OUTB (out)

## TYCO_2007435-1
designator X?, comment HDMI
Connector HDMI 19 Male + 1 Shield; Part Number: TYCO_2007435-1; Part Description: 0.578mm Pitch, Through-Hole Right Angle 19 Contacts Flag-HDMI Type-A Receptacle Thru Hole Mounting Pads; Manufacturer: TYCO ELECTRONICS; Manufacturer Part Number: 2007435-1; PressFit: No; Component Kind: Standard; Component Type: Standard; Footprint: TYCO_2007435-1; Pin Count: 23; Family: HDMI; Mounted: Yes; Socket: No; SMD: No; Sense: No; Status: None; ComponentHeight: 16.4mm; HelpURL: \\cern.ch\dfs\Applications\Altium\Datasheets\TYCO_2007435-1.pdf; Author: CERN DEM MR; CreateDate: 05.07.2016; LatestRevisionDate: 05.07.2016
footprint TYCO_2007435-1
pins: 1 (io), 2 (io), 3 (io), 4 (io), 5 (io), 6 (io), 7 (io), 8 (io), 9 (io), 10 (io), 11 (io), 12 (io), 13 (io), 14 (io), 15 (io), 16 (io), 17 (io), 18 (io), 19 (io), SHIELD (power)

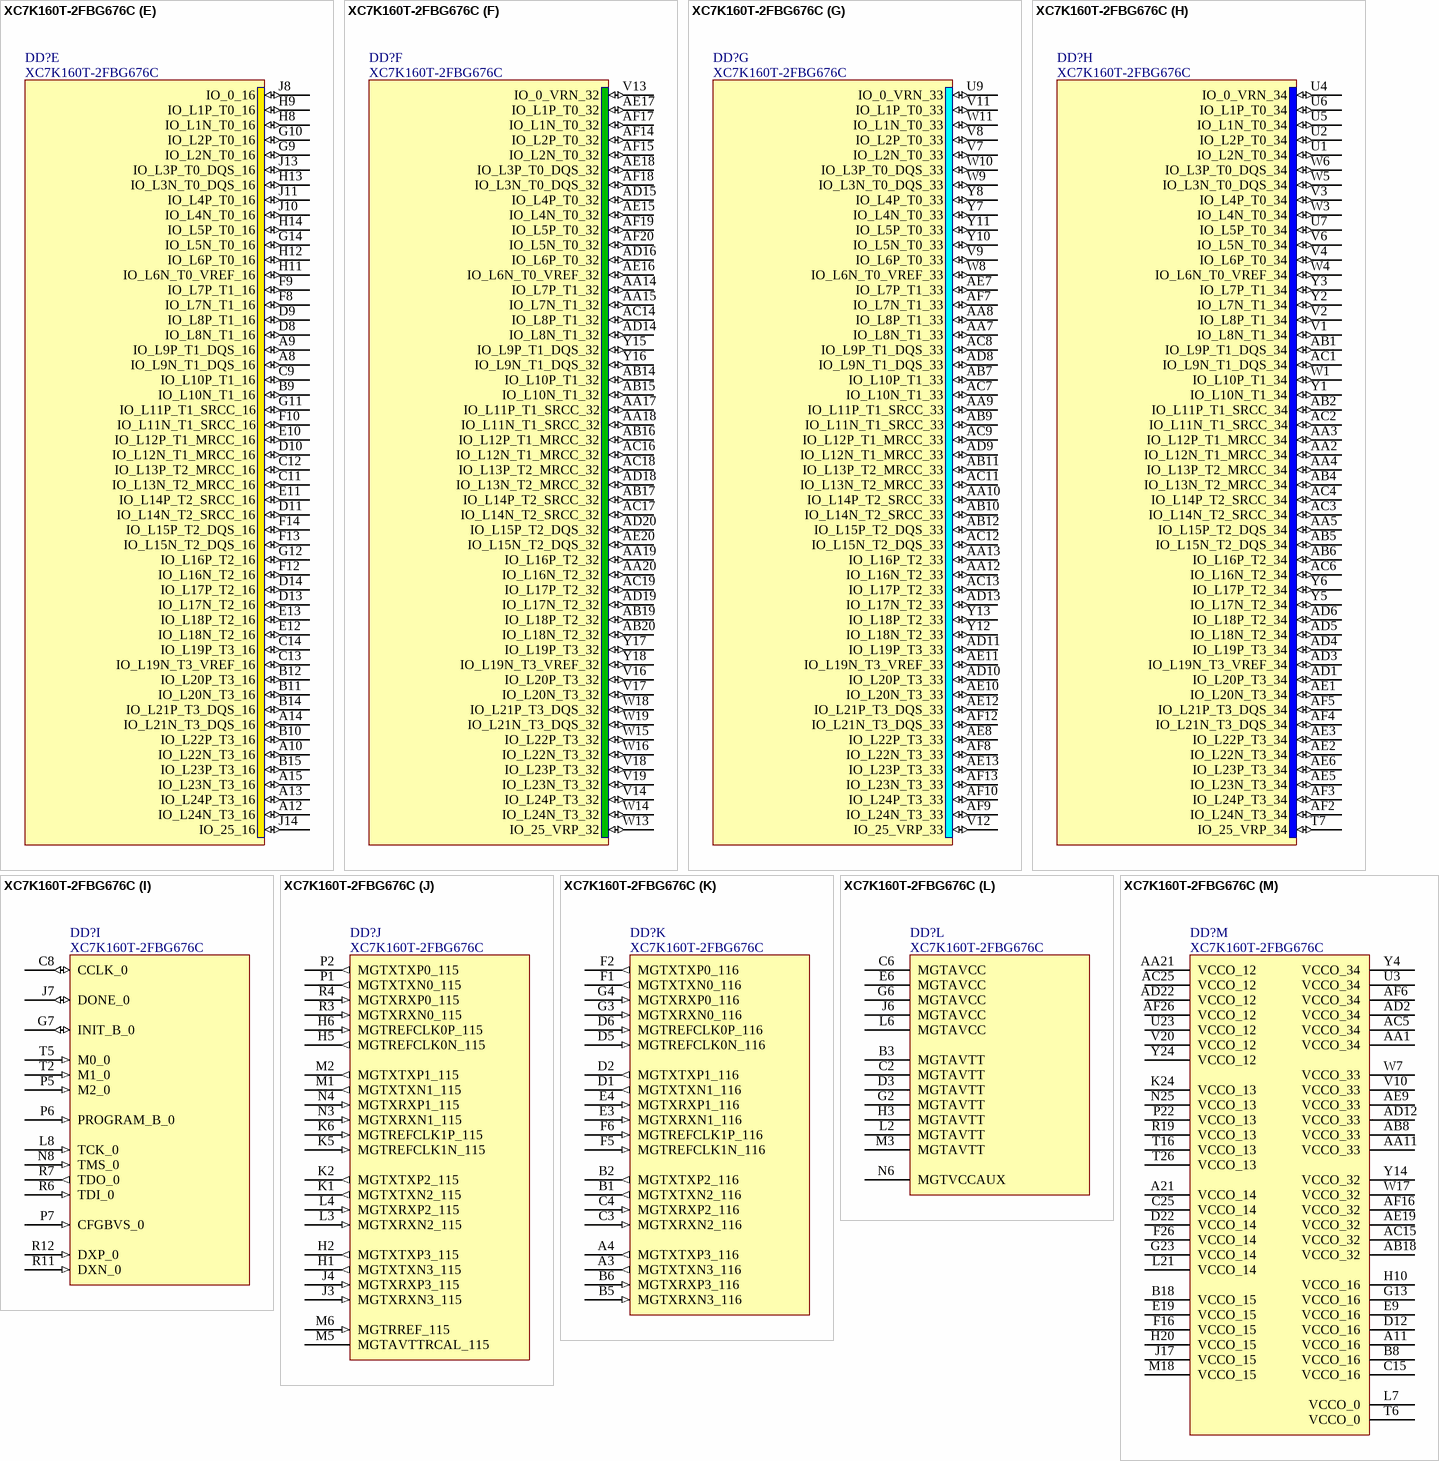
[diagram p4: symbol XC7K160T-2FBG676C]

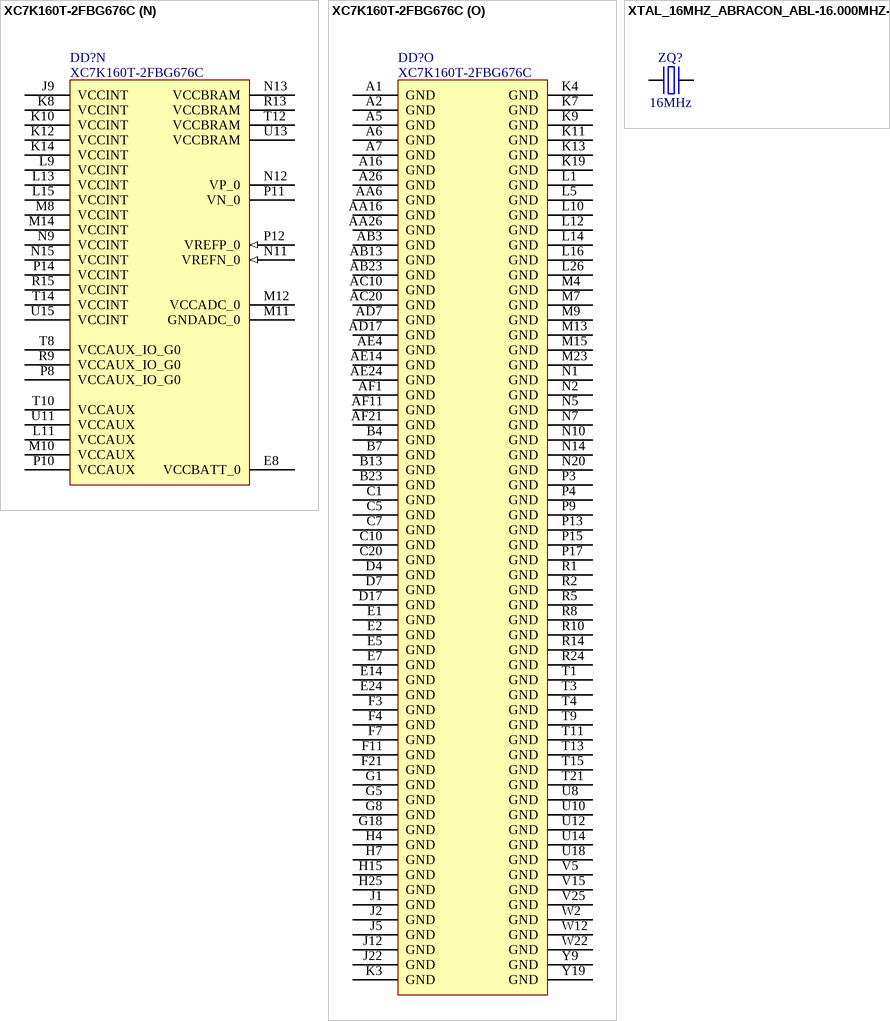
[diagram p5: symbols XC7K160T-2FBG676C to XTAL_16MHZ_ABRACON_ABL-16.000MHZ-B1U]